# Altium schematic symbol library UCDFR Power Regulation.SchLib: 7 symbols
Pins are listed as number, name and electrical type; pins without a type are passive.

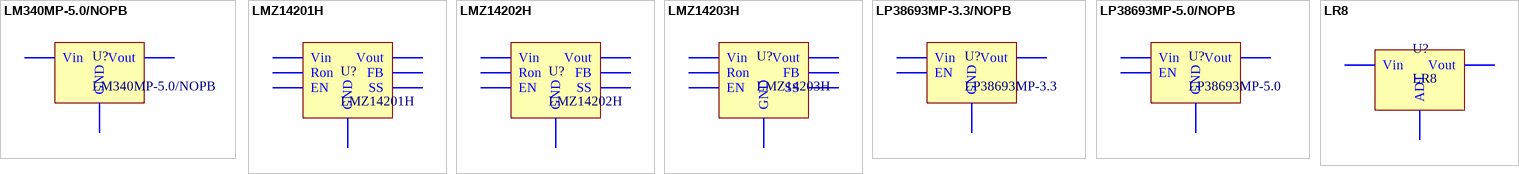
[diagram p0: symbols LM340MP-5.0/NOPB to LR8]

## LM340MP-5.0/NOPB
designator U?
TI, 5V LDO; Manufacturer: Texas Instruments; Mfg. PN: LM340MP-5.0/NOPB; Digi-Key PN: LM340MP-5.0/NOPBCT-ND
footprint LM340MP-5.0/NOPB (TI, 5V LDO)
pins: 1 Vin, 2 GND, 3 Vout

## LMZ14201H
designator U?
TI, Monolithic Switch Mode Power Supply, 1A Max Output; Manufacturer: Texas Instruments; Mfg. PN: LMZ14201HTZ/NOPB; Digi-Key PN: LMZ14201HTZ/NOPBCT-ND
footprint LMZ1420xH (TE, Monolithic Switching Regulator)
pins: 1 Vin, 2 Ron, 3 EN, 4 GND, 5 SS, 6 FB, 7 Vout

## LMZ14202H
designator U?
TI, Monolithic Switch Mode Power Supply, 2A Max Output; Manufacturer: Texas Instruments; Mfg. PN: LMZ14202HTZ/NOPB; Digi-Key PN: LMZ14202HTZ/NOPBCT-ND
footprint LMZ1420xH (TE, Monolithic Switching Regulator)
pins: 1 Vin, 2 Ron, 3 EN, 4 GND, 5 SS, 6 FB, 7 Vout

## LMZ14203H
designator U?
TI, Monolithic Switch Mode Power Supply, 3A Max Output; Manufacturer: Texas Instruments; Mfg. PN: LMZ14203HTZ/NOPB; Digi-Key PN: LMZ14203HTZ/NOPBCT-ND
footprint LMZ1420xH (TE, Monolithic Switching Regulator)
pins: 1 Vin, 2 Ron, 3 EN, 4 GND, 5 SS, 6 FB, 7 Vout

## LP38693MP-3.3/NOPB
designator U?, comment LP38693MP-3.3
TI, 3.3V LDO; Manufacturer: Texas Instruments; Mfg. PN: LP38693MP-3.3/NOPB; Digi-Key PN: LP38693MP-3.3/NOPBCT-ND
footprint SOT223-5
pins: 1 EN, 3 Vout, 4 Vin, 5 GND

## LP38693MP-5.0/NOPB
designator U?, comment LP38693MP-5.0
TI, 5V LDO; Manufacturer: Texas Instruments; Mfg. PN: LP38693MP-5.0/NOPB; Digi-Key PN: LP38693MP-5.0/NOPBCT-ND
footprint SOT223-5
pins: 1 EN, 3 Vout, 4 Vin, 5 GND

## LR8
designator U?
Supertex, LR8; Manufacturer: Microchip Technology; Mfg. PN: LR8K4-G; Mouser PN: 689-LR8K4-G
footprint TO-252 (D-PAK)
pins: 1 Vin, 2 Vout, 3 ADJ